# Altium schematic symbol library TPS22924C.SchLib: 1 symbol
Pins are listed as number, name and electrical type; pins without a type are passive.

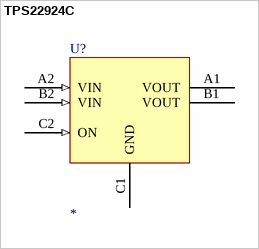
[diagram p0: symbol TPS22924C]

## TPS22924C
designator U?
pins: A1 VOUT (power), A2 VIN (in), B1 VOUT (power), B2 VIN (in), C1 GND (power), C2 ON (in)